# EAGLE library part DPDT_CK_PN_2XS_SERIES (library Eagle3D-Switch)
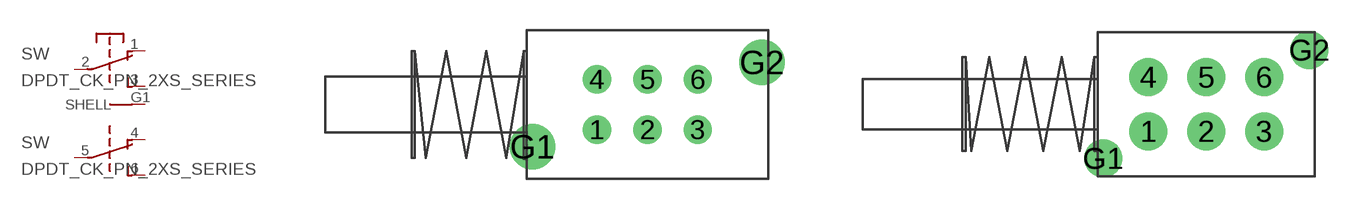
[diagram p1: symbol with the pads of CK-PN2XS; footprints CK-PN2XS, CK-PN2XL]

Designator prefix SW; gates G$1=DPDT-1 G$2=DPDT-2

## DPDT_CK_PN_2XS_SERIES_MOMENTARY  [CK-PN2XS]
1  G$1:NC-1  pas
2  G$1:P-1  pas
3  G$1:NO-1  pas
4  G$2:NC-1  pas
5  G$2:P-1  pas
6  G$2:NO-1  pas
G1  G$1:SHELL

## DPDT_CK_PN_2XS_SERIES_ON/ON  [CK-PN2XL]
Pads as for CK-PN2XS

## Footprint CK-PN2XS (pad centres in mm)
drill 0.9 round: 1 -2.5,-1.25; 2 0,-1.25; 3 2.5,-1.25; 4 -2.5,1.25; 5 0,1.25; 6 2.5,1.25
drill 1.5 round: G1 -5.7,-2.1; G2 5.7,2.1

## Footprint CK-PN2XL (pad centres in mm)
drill 1.4 round: 1 -3.2,-1.5; 2 0,-1.5; 3 3.2,-1.5; 4 -3.2,1.5; 5 0,1.5; 6 3.2,1.5; G1 -5.7,-3; G2 5.7,3